# Altium schematic symbol library MP2359DJ-LF-Z.SchLib: 1 symbol
Pins are listed as number, name and electrical type; pins without a type are passive.

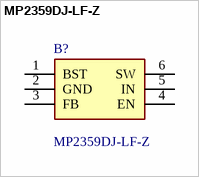
[diagram p0: symbol MP2359DJ-LF-Z]

## MP2359DJ-LF-Z
designator B?
Voltage Regulators - Switching Regulators 1A 24V 1.4MHz Non-sync Buck; Manufacturer_Name: Monolithic Power Systems (MPS); Geometry.Height: 1mm; Mouser Part Number: 946-MP2359DJLFZ; Mouser Price/Stock: https://www.mouser.co.uk/ProductDetail/Monolithic-Power-Systems-MPS/MP2359DJ-LF-Z?qs=rC7bBWoQAAkgAaURxgQSyA%3D%3D; Manufacturer_Part_Number: MP2359DJ-LF-Z; Datasheet Link: https://datasheet.datasheetarchive.com/originals/distributors/Datasheets_SAMA/89d986a89c59d1844ef77b6f65b8a4d2.pdf
footprint SOT95P280X100-6N
pins: 1 BST, 2 GND, 3 FB, 4 EN, 5 IN, 6 SW